# EAGLE library part XC9536-44 (library dec-con)
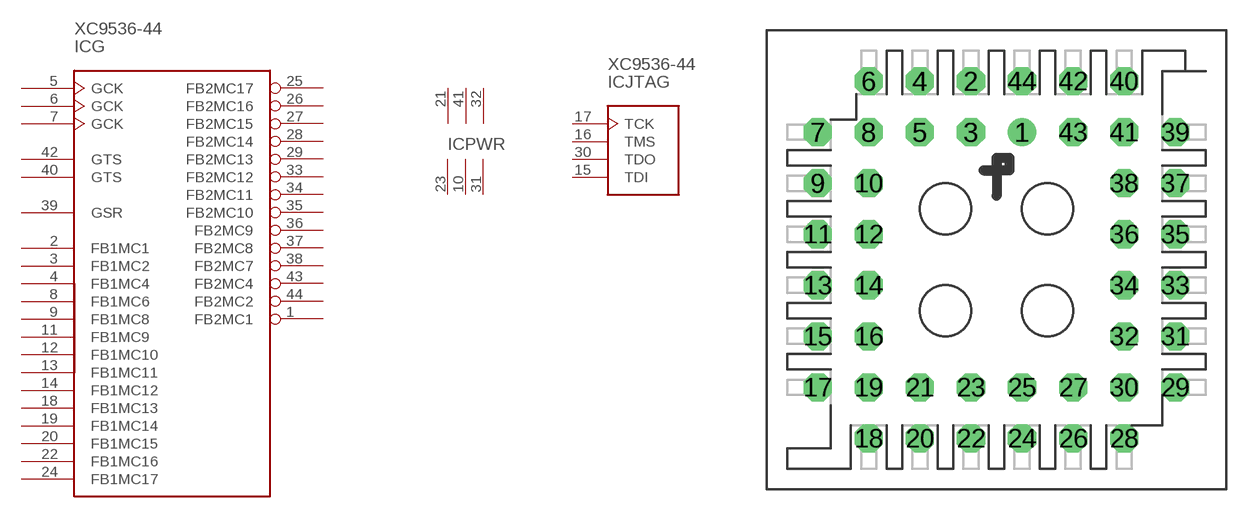
[diagram p89: symbol with the pads of PLCC-S44; footprint PLCC-S44]

Designator prefix IC; gates G=XC9536 PWR=PWR6 JTAG=JTAG

## XC9536-44  [PLCC-S44]
1  G:FB2MC1
2  G:FB1MC1
3  G:FB1MC2
4  G:FB1MC4
5  G:GCK  in
6  G:GCK  in
7  G:GCK  in
8  G:FB1MC6
9  G:FB1MC8
10  PWR:GND  pwr
11  G:FB1MC9
12  G:FB1MC10
13  G:FB1MC11
14  G:FB1MC12
15  JTAG:TDI  in
16  JTAG:TMS  in
17  JTAG:TCK  in
18  G:FB1MC13
19  G:FB1MC14
20  G:FB1MC15
21  PWR:VCC  pwr
22  G:FB1MC16
23  PWR:GND  pwr
24  G:FB1MC17
25  G:FB2MC17
26  G:FB2MC16
27  G:FB2MC15
28  G:FB2MC14
29  G:FB2MC13
30  JTAG:TDO  out
31  PWR:GND  pwr
32  PWR:VCC  pwr
33  G:FB2MC12
34  G:FB2MC11
35  G:FB2MC10
36  G:FB2MC9
37  G:FB2MC8
38  G:FB2MC7
39  G:GSR  in
40  G:GTS  in
41  PWR:VCC  pwr
42  G:GTS  in
43  G:FB2MC4
44  G:FB2MC2

## Footprint PLCC-S44 (pad centres in mm)
drill 0.813 pad 1.397: 1 1.27,6.35
drill 0.813 pad 1.397 octagon: 2 -1.27,8.89; 3 -1.27,6.35; 4 -3.81,8.89; 5 -3.81,6.35; 6 -6.35,8.89; 7 -8.89,6.35; 8 -6.35,6.35; 9 -8.89,3.81; 10 -6.35,3.81; 11 -8.89,1.27; 12 -6.35,1.27; 13 -8.89,-1.27; 14 -6.35,-1.27; 15 -8.89,-3.81; 16 -6.35,-3.81; 17 -8.89,-6.35; 18 -6.35,-8.89; 19 -6.35,-6.35; 20 -3.81,-8.89; 21 -3.81,-6.35; 22 -1.27,-8.89; 23 -1.27,-6.35; 24 1.27,-8.89; 25 1.27,-6.35; 26 3.81,-8.89; 27 3.81,-6.35; 28 6.35,-8.89; 29 8.89,-6.35; 30 6.35,-6.35; 31 8.89,-3.81; 32 6.35,-3.81; 33 8.89,-1.27; 34 6.35,-1.27; 35 8.89,1.27; 36 6.35,1.27; 37 8.89,3.81; 38 6.35,3.81; 39 8.89,6.35; 40 6.35,8.89; 41 6.35,6.35; 42 3.81,8.89; 43 3.81,6.35; 44 1.27,8.89